# EAGLE library part PINHD2X07 (library lib_stankus)
Pin header 2x07
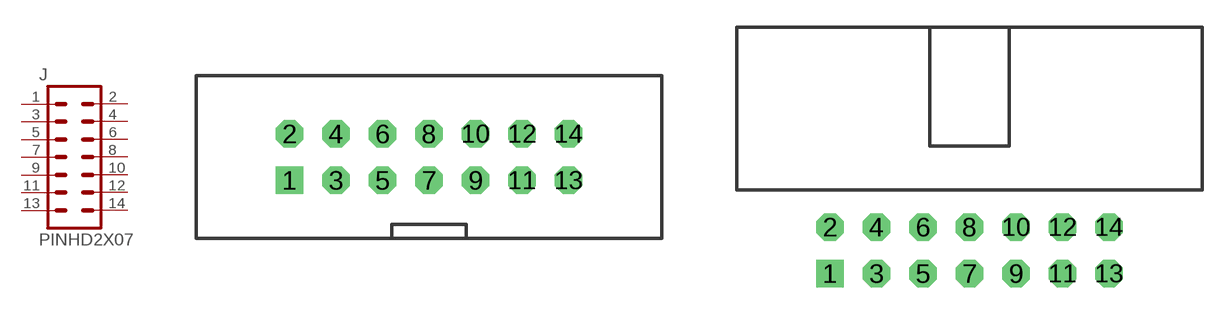
[diagram p52: symbol with the pads of PINHD2X07S; footprints PINHD2X07S, PINHD2X07AS]

Designator prefix J

## PINHD2X07-STRT_SHRD  [PINHD2X07S]
1  1  pas
2  2  pas
3  3  pas
4  4  pas
5  5  pas
6  6  pas
7  7  pas
8  8  pas
9  9  pas
10  10  pas
11  11  pas
12  12  pas
13  13  pas
14  14  pas

## PINHD2X07-ANGLE_SHRD  [PINHD2X07AS]
Pads as for PINHD2X07S

## PINHD2X07-STRT  [PINHD2X07]
Pads as for PINHD2X07S

## Footprint PINHD2X07S (pad centres in mm)
PIN HEADER 2x07 SHROUDED
drill 1 square: 1 -7.62,-1.27
drill 1 octagon: 2 -7.62,1.27; 3 -5.08,-1.27; 4 -5.08,1.27; 5 -2.54,-1.27; 6 -2.54,1.27; 7 0,-1.27; 8 0,1.27; 9 2.54,-1.27; 10 2.54,1.27; 11 5.08,-1.27; 12 5.08,1.27; 13 7.62,-1.27; 14 7.62,1.27

## Footprint PINHD2X07AS (pad centres in mm)
PIN HEADER 2x07 ANGLED SHROUDED
drill 1 square: 1 -7.62,-1.27
drill 1 octagon: 2 -7.62,1.27; 3 -5.08,-1.27; 4 -5.08,1.27; 5 -2.54,-1.27; 6 -2.54,1.27; 7 0,-1.27; 8 0,1.27; 9 2.54,-1.27; 10 2.54,1.27; 11 5.08,-1.27; 12 5.08,1.27; 13 7.62,-1.27; 14 7.62,1.27

## Footprint PINHD2X07 (pad centres in mm)
PIN HEADER 2x07
drill 1 square: 1 -7.62,-1.27
drill 1 octagon: 2 -7.62,1.27; 3 -5.08,-1.27; 4 -5.08,1.27; 5 -2.54,-1.27; 6 -2.54,1.27; 7 0,-1.27; 8 0,1.27; 9 2.54,-1.27; 10 2.54,1.27; 11 5.08,-1.27; 12 5.08,1.27; 13 7.62,-1.27; 14 7.62,1.27